# EAGLE library part RCD-24_MY_DEV (library RCD-Custom1)
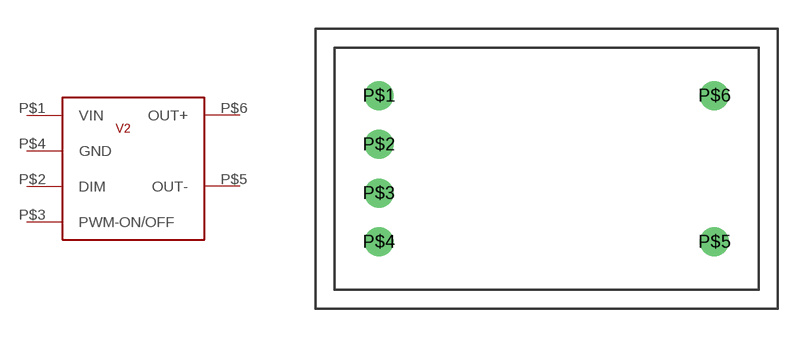
[diagram p0: symbol with the pads of RCD24-DIP; footprint RCD24-DIP]

Designator prefix -

## RCD-24_MY_DEV  [RCD24-DIP]
P$1  VIN
P$2  DIM
P$3  PWM-ON/OFF
P$4  GND
P$5  OUT-
P$6  OUT+

## Footprint RCD24-DIP (pad centres in mm)
drill 1: P$1 -9,3.72; P$2 -9,1.18; P$3 -9,-1.36; P$4 -9,-3.9; P$5 8.5,-3.9; P$6 8.5,3.72